# Altium footprint library RJ45.PcbLib: 2 footprints
Each footprint in its own frame and in the unit in brackets; x right, y up, seen from the top. Pads: shape width x height; smd on the part's side, far side on the other; paste and mask are expansions set on the pad; w line width, h text height; cw(c..) or ccw(c..) is an arc to the next point about the centre after c.
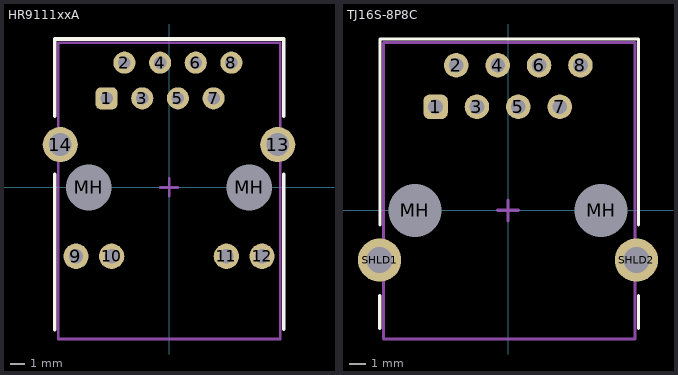
[diagram p0: the footprints below, top view; thin cyan lines are the x and y axes]

## HR9111xxA [mm] "RJ45 Connector with integrated magnetics"
pads (16):
  rrect50% 1.575x1.575 hole 0.889: 1(-4.462,6.344)
  round 1.575 hole 0.889: 2(-3.192,8.884) 3(-1.922,6.344) 4(-0.652,8.884) 5(0.618,6.344) 6(1.888,8.884) 7(3.158,6.344) 8(4.428,8.884)
  round 1.8 hole 1.02: 9(-6.642,-4.906) 10(-4.102,-4.906) 11(4.068,-4.906) 12(6.608,-4.906)
  round 2.5 hole 1.63: 13(7.728,3.044) 14(-7.762,3.044)
  round 3 hole 3.25 unplated: MH(-5.732,-0.006) MH(5.698,-0.006)
Top Overlay:
  lines w0.254: -8.153,-10.128 -8.153,0.921 ; -8.148,5.08 -8.148,10.569 8.163,10.569 8.163,5.08 ; 8.16,-10.106 8.16,0.925
Mechanical 13:
  lines w0.2: -7.902,-10.8 7.901,-10.8 7.901,10.309 -7.902,10.309 -7.902,-10.8
Mechanical 15:
  lines w0.2: -0.635,0 0.635,0 ; 0,-0.635 0,0.635
3D body "User Library-RMS-001L-08A0-GY.STEP": height 13, standoff -3.8, extent -8,-10.886 8,10.414

## TJ16S-8P8C [mm]
pads (12):
  rrect50% 1.5x1.5 hole 0.9: 1(-4.445,6.35)
  round 1.5 hole 0.9: 2(-3.175,8.89) 3(-1.905,6.35) 4(-0.635,8.89) 5(0.635,6.35) 6(1.905,8.89) 7(3.175,6.35) 8(4.445,8.89)
  round 2.95 hole 3.25 unplated: MH(-5.715,0) MH(5.715,0)
  round 2.65 hole 1.6: SHLD1(-7.875,-3.05) SHLD2(7.875,-3.05)
Top Overlay:
  lines w0.2: -7.874,-7.24 -7.874,-5.24 ; -7.853,-0.89 -7.853,10.507 8.002,10.507 8.002,-0.89 ; 8.001,-7.24 8.001,-5.24
Mechanical 13:
  lines w0.2: -7.632,-7.894 -7.632,10.286 7.785,10.286 7.785,-7.894 -7.632,-7.894
Mechanical 15:
  lines w0.2: -0.635,0 0.635,0 ; 0,-0.635 0,0.635
3D body "TJ16S-8P8C.STEP": height 3, standoff -12.68, extent -7.726,-7.966 7.874,10.394